# Altium footprint library CONNECTOR.PcbLib: 13 footprints
Each footprint in its own frame and in the unit in brackets; x right, y up, seen from the top. Pads: shape width x height; smd on the part's side, far side on the other; paste and mask are expansions set on the pad; w line width, h text height; cw(c..) or ccw(c..) is an arc to the next point about the centre after c.
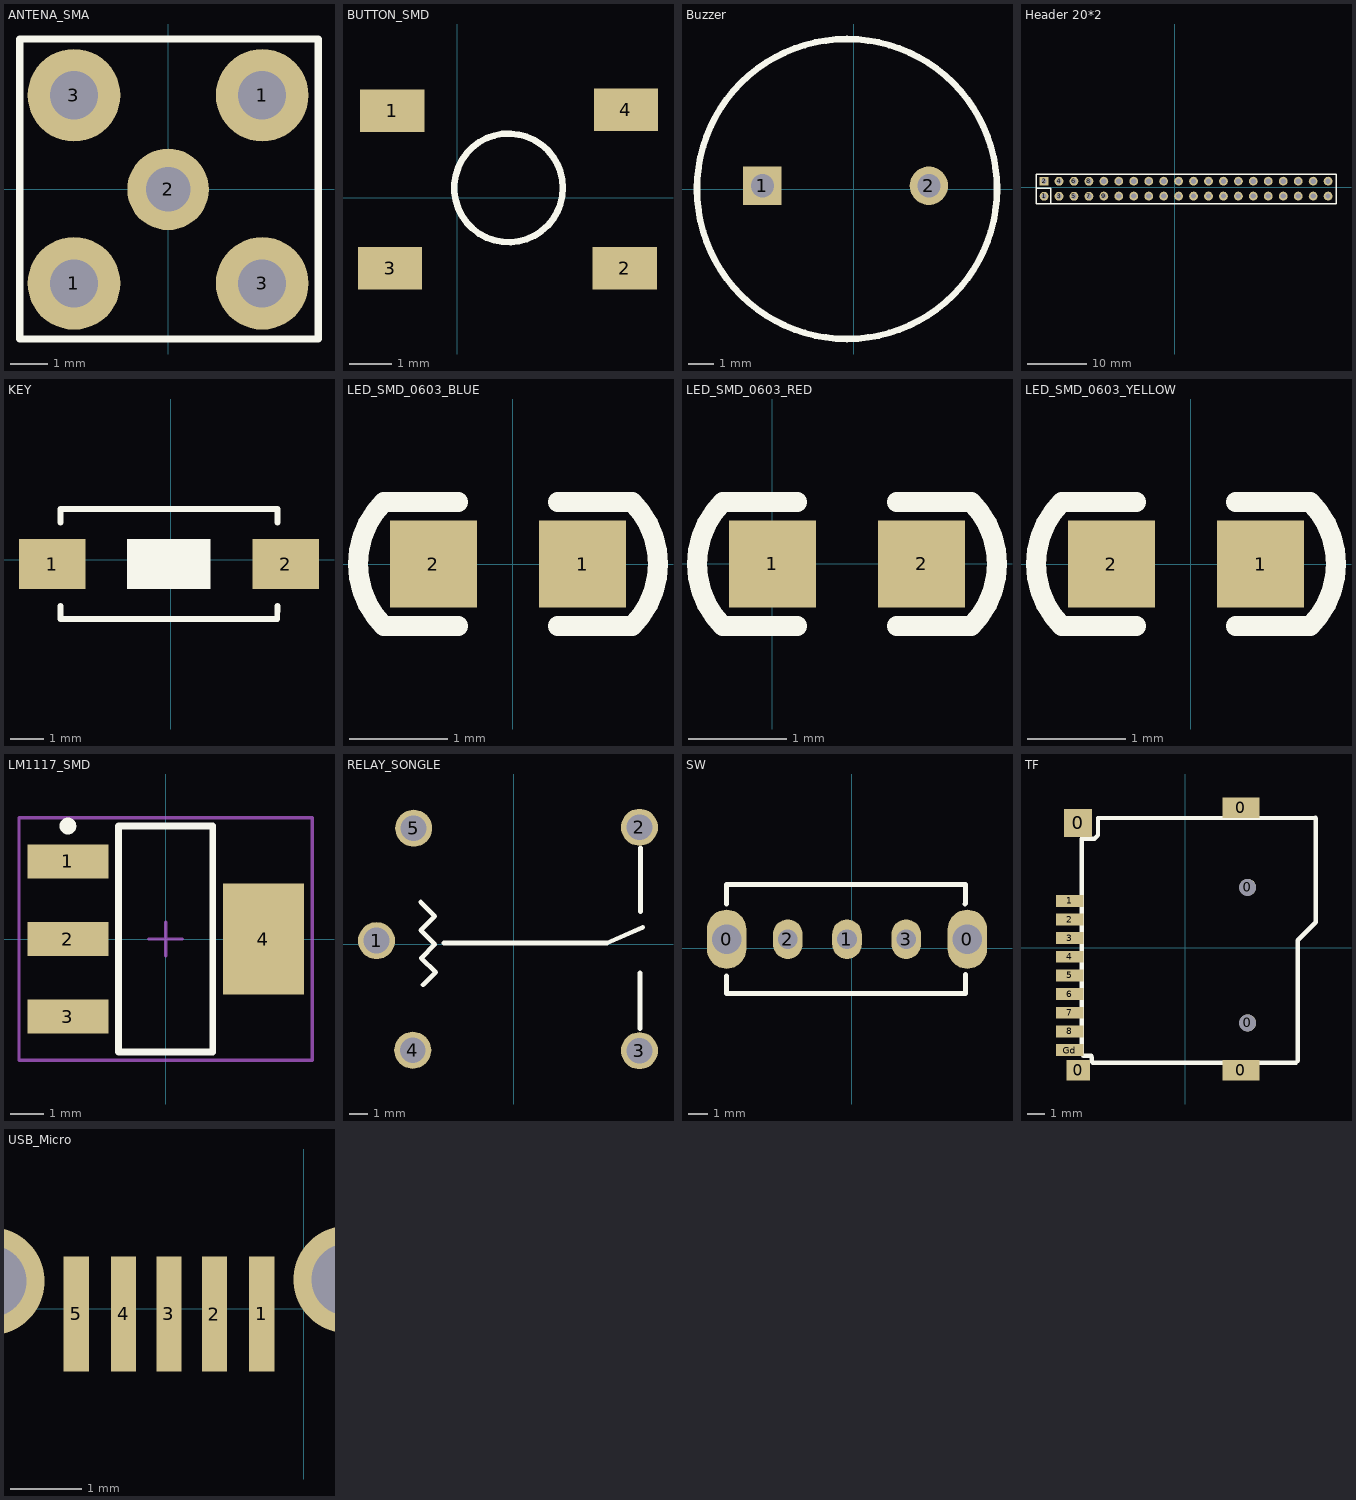
[diagram p0: the footprints below, top view; thin cyan lines are the x and y axes]

## ANTENA_SMA [mm] "Connector; Header; 2 Position"
height 1.27
pads (5):
  round 2.5 hole 1.3: 1(-2.54,-2.54) 1(2.54,2.54) 3(-2.54,2.54) 3(2.54,-2.54)
  round 2.2 hole 1.2: 2(0,0)
Top Overlay:
  lines w0.2: -4.01,-4.04 4.06,-4.04 4.06,4.06 -4.01,4.06 -4.01,-4.04
3D body "Samtec3dPS-SMA-TH.STEP": height 9.86, standoff -4.24, extent -3.5,-3.5 11.6,3.5

## BUTTON_SMD [mm] "SW button 4pin, 250 x250 mil"
height 2.54
pads (4):
  rect 1.5x1 smd: 1(-1.524,2.032) 2(3.912,-1.651) 3(-1.575,-1.651) 4(3.937,2.057)
Top Overlay:
  circle w0.152: c1.194,0.229 r1.27
3D body "User Library-LP16.STEP": height 1.5, standoff 0, extent -1.981,-2.347 4.419,2.753

## Buzzer [mm]
pads (2):
  rect 1.5x1.5 hole 0.9: 1(-3.556,0.127)
  round 1.5 hole 0.9: 2(2.944,0.127)
Top Overlay:
  circle w0.254: c-0.254,0 r5.854
3D body "SW3dPS-Buzzer_Mini.STEP": height 8.6, standoff -5.4, extent -6.35,-5.969 5.65,6.031

## Header 20*2 [mm]
pads (40):
  round 1.5 hole 0.9: 1(-22.174,-1.499) 3(-19.634,-1.499) 4(-19.634,1.041) 5(-17.094,-1.499) 6(-17.094,1.041) 7(-14.554,-1.499) 8(-14.554,1.041) 9(-12.014,-1.473) 10(-12.014,1.067) 11(-9.474,-1.473) 12(-9.474,1.067) 13(-6.934,-1.473) 14(-6.934,1.067) 15(-4.394,-1.473) 16(-4.394,1.067) 17(-1.854,-1.473) 18(-1.854,1.067) 19(0.686,-1.473) 20(0.686,1.067) 21(3.226,-1.473) 22(3.226,1.067) 23(5.766,-1.473) 24(5.766,1.067) 25(8.306,-1.473) 26(8.306,1.067) 27(10.846,-1.473) 28(10.846,1.067) 29(13.386,-1.473) 30(13.386,1.067) 31(15.926,-1.473) 32(15.926,1.067) 33(18.466,-1.473) 34(18.466,1.067) 35(21.006,-1.473) 36(21.006,1.067) 37(23.546,-1.473) 38(23.546,1.067) 39(26.086,-1.473) 40(26.086,1.067)
  rect 1.5x1.5 hole 0.9: 2(-22.174,1.041)
Top Overlay:
  lines w0.254: -23.495,-0.178 -21.006,-0.178 -21.006,-2.642 ; 17.018,-2.743 27.407,-2.743 27.432,-2.718 27.432,2.21 17.297,2.21 -23.546,2.21 -23.546,-2.718 -23.52,-2.743 17.297,-2.743
3D body "female_header_a-bl254-dg-g40d.stp": height 8.5, standoff -3.2, extent -23.544,-2.841 27.506,2.159

## KEY [mm]
pads (2):
  rect 2x1.5 smd: 1(-3.557,-0.133) 2(3.443,-0.133)
Top Overlay:
  rectangle: -1.311,-0.881 1.189,0.619
  lines w0.178: -3.307,-1.383 -3.307,-1.778 3.19,-1.778 3.193,-1.383 ; -3.307,1.117 -3.307,1.524 3.193,1.524 3.193,1.117
3D body "User Library-SWT-39.STEP": height 2.5, standoff 0, extent -4.079,-1.956 3.921,1.744

## LED_SMD_0603_BLUE [mil] "C72041"
pads (2):
  rect 35x35 smd: 1(28,0) 2(-32,0)
Top Overlay:
  lines w8: -22,-25 -52,-25 cw(c-27,0) -52,25 -22,25 ; 18,-25 48,-25 ccw(c23,0) 48,25 18,25
3D body "User Library-LED_0603_B.STEP": height 23.62, standoff -0.08, extent -31.49,-15.74 31.51,15.75

## LED_SMD_0603_RED [mil]
pads (2):
  rect 35x35 smd: 1(0,0) 2(60,0)
Top Overlay:
  lines w8: 10,-25 -20,-25 cw(c5,0) -20,25 10,25 ; 50,-25 80,-25 ccw(c55,0) 80,25 50,25
3D body "User Library-LED_0603_R.STEP": height 23.62, standoff -0.08, extent -2.5,-15.75 60.5,15.75

## LED_SMD_0603_YELLOW [mil] "C72038"
pads (2):
  rect 35x35 smd: 1(28,0) 2(-32,0)
Top Overlay:
  lines w8: -22,-25 -52,-25 cw(c-27,0) -52,25 -22,25 ; 18,-25 48,-25 ccw(c23,0) 48,25 18,25
3D body "LED Yellow SMD 0603 Würth 150060YS55040.stp": height 15.75, standoff 0, extent -33.5,-15.49 29.5,16

## LM1117_SMD [mm] "SOT223, 4-Leads, Body 6.5x3.5mm, Pitch 2.3mm, Lead Span 7mm, IPC Medium Density"
height 1.8
pads (4):
  rect 2.4x1 smd: 1(-2.9,2.3) 2(-2.9,0) 3(-2.9,-2.3)
  rect 2.4x3.3 smd: 4(2.9,0)
Top Overlay:
  circle w0.25: c-2.9,3.35 r0.125
  lines w0.2: -1.4,-3.35 -1.4,3.35 1.4,3.35 1.4,-3.35 -1.4,-3.35
Mechanical 15:
  lines w0.1: -0.5,0 0.5,0 ; 0,-0.5 0,0.5 ; -4.35,-3.6 -4.35,3.6 4.35,3.6 4.35,-3.6 -4.35,-3.6
3D body "SW3dPS-Regulator.STEP": height 1.72, standoff 0.02, extent -3.395,-3.274 3.496,3.226

## RELAY_SONGLE [mm]
height 1.27
pads (5):
  round 2 hole 1.4: 1(-7.417,0.203) 2(6.782,6.325) 3(6.782,-5.74) 4(-5.461,-5.715) 5(-5.41,6.274)
Top Overlay:
  lines w0.254: -5.029,2.286 -4.267,1.524 -5.029,0.762 -4.267,0 -5.004,-0.737 -4.216,-1.499 -4.902,-2.184 ; -3.785,0.076 5.029,0.076 6.966,0.922 ; 6.807,-4.547 6.807,-1.524 ; 6.833,1.778 6.833,5.207
3D body "User Library-PANASONIC RELAY AUTO MINI SPDT 15A 12VDC - JSM1-12V-5-1.STEP": height 16, standoff -3.9, extent -10.314,-7.72 11.686,8.28

## SW [mm]
pads (5):
  oval 2x3 hole 1.5: 0(-6.347,0.467) 0(5.853,0.467)
  oval 1.5x2 hole 1: 1(-0.247,0.467) 2(-3.247,0.467) 3(2.753,0.467)
Top Overlay:
  lines w0.254: -6.35,-1.397 -6.35,-2.272 5.75,-2.272 5.75,-1.311 ; -6.35,2.261 -6.35,3.228 5.75,3.228 5.75,2.27 5.74,2.261
3D body "User Library-SLB12814.STEP": height 9.65, standoff -2.6, extent -7.178,-2.644 6.822,3.556

## TF [mm]
pads (15):
  rect 1.4x1.2 smd: 0(-6.328,-7.242)
  rect 1.651x1.651 smd: 0(-6.328,7.358)
  rect 2.2x1.2 smd: 0(3.272,-7.242) 0(3.272,8.258)
  round 1 hole 1: 0(3.672,-4.442) 0(3.672,3.558)
  rect 1.6x0.7 smd: 1(-6.828,2.758) 2(-6.828,1.658) 3(-6.828,0.558) 4(-6.828,-0.542) 5(-6.828,-1.642) 6(-6.828,-2.742) 7(-6.828,-3.842) 8(-6.828,-4.942) Gd(-6.828,-6.042)
Top Overlay:
  lines w0.254: -5.567,-6.378 -6.024,-6.378 -6.126,-6.277 -6.126,6.423 -5.364,6.423 -5.161,6.626 -5.161,7.642 7.672,7.658 ; -5.537,-6.713 -5.537,-6.477 ; -5.466,-6.785 6.523,-6.785 6.625,-6.683 6.625,0.429 7.692,1.496 7.692,7.638
3D body "User Library-Micro SD.STEP": height 2.13, standoff -0.35, extent -7.517,-7.512 7.693,8.795

## USB_Micro [mm]
height 1.27
pads (5):
  rect 0.35x1.6 smd: 1(-0.584,-0.076) 2(-1.245,-0.076) 3(-1.88,-0.076) 4(-2.515,-0.076) 5(-3.175,-0.076)
via 0.61,0.406 diameter 1.5 hole 1
via -4.369,0.381 diameter 1.5 hole 1
via 1.626,3.175 diameter 1.8 hole 1.2
via -5.385,3.175 diameter 1.8 hole 1.2
3D body "User Library-10118194.STEP": height 2.73, standoff -0.55, extent -5.905,0.237 2.145,5.817